# Altium footprint library BQ34Z100.PcbLib: 1 footprints
Each footprint in its own frame and in the unit in brackets; x right, y up, seen from the top. Pads: shape width x height; smd on the part's side, far side on the other; paste and mask are expansions set on the pad; w line width, h text height; cw(c..) or ccw(c..) is an arc to the next point about the centre after c.
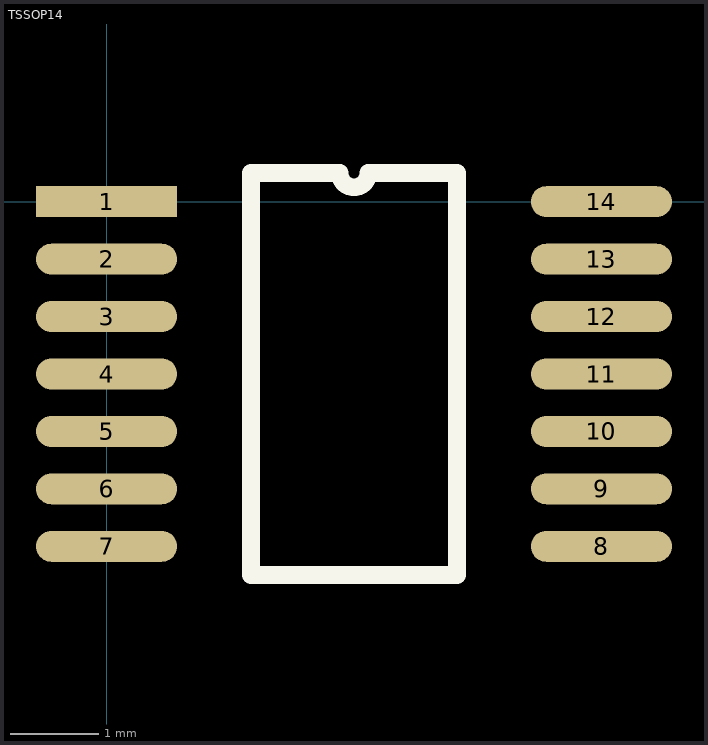
[diagram p0: the footprint, top view; thin cyan lines are the x and y axes]

## TSSOP14 [mm]
pads (14):
  rect 1.6x0.35 smd: 1(0,0)
  oval 1.6x0.35 smd: 2(0,-0.65) 3(0,-1.3) 4(0,-1.95) 5(0,-2.6) 6(0,-3.25) 7(0,-3.9) 8(5.6,-3.9) 9(5.6,-3.25) 10(5.6,-2.6) 11(5.6,-1.95) 12(5.6,-1.3) 13(5.6,-0.65) 14(5.6,0)
Top Overlay:
  lines w0.2: 1.635,-4.225 1.635,0.325 2.638,0.325 ccw(c2.8,0.325) 2.962,0.325 3.965,0.325 3.965,-4.225 1.635,-4.225